# EAGLE library part MC33033DWR2G (library ON Semiconductor_By_element14_Batch_1)
Brushless DC Motor Controller
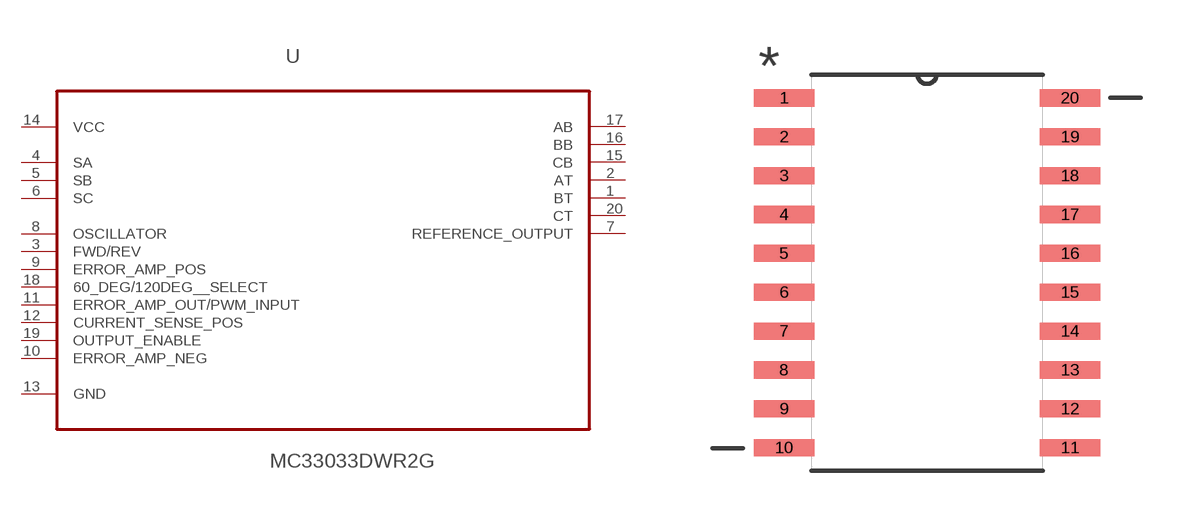
[diagram p318: symbol with the pads of SOIC127P1030X265-20N; footprint SOIC127P1030X265-20N]

Designator prefix U

## MC33033DWR2G (MPN: MC33033DWR2G; OC_FARNELL: -; OC_NEWARK: 84K8758; PACKAGE: SOIC-20; SUPPLIER: ON SEMICONDUCTOR)  [SOIC127P1030X265-20N]
1  BT  out
2  AT  out
3  FWD/REV  out
4  SA  in
5  SB  in
6  SC  in
7  REFERENCE_OUTPUT  out
8  OSCILLATOR  in
9  ERROR_AMP_POS  in
10  ERROR_AMP_NEG  in
11  ERROR_AMP_OUT/PWM_INPUT  in
12  CURRENT_SENSE_POS  in
13  GND  pas
14  VCC  pwr
15  CB  out
16  BB  out
17  AB  out
18  60_DEG/120DEG__SELECT  in
19  OUTPUT_ENABLE  in
20  CT  out

## Footprint SOIC127P1030X265-20N (pad centres in mm)
smd 1.981 x 0.559: 1 -4.674,5.715; 2 -4.674,4.445; 3 -4.674,3.175; 4 -4.674,1.905; 5 -4.674,0.635; 6 -4.674,-0.635; 7 -4.674,-1.905; 8 -4.674,-3.175; 9 -4.674,-4.445; 10 -4.674,-5.715; 11 4.674,-5.715; 12 4.674,-4.445; 13 4.674,-3.175; 14 4.674,-1.905; 15 4.674,-0.635; 16 4.674,0.635; 17 4.674,1.905; 18 4.674,3.175; 19 4.674,4.445; 20 4.674,5.715